# EAGLE library part CEM3320_UNFOLDED (library CEM)
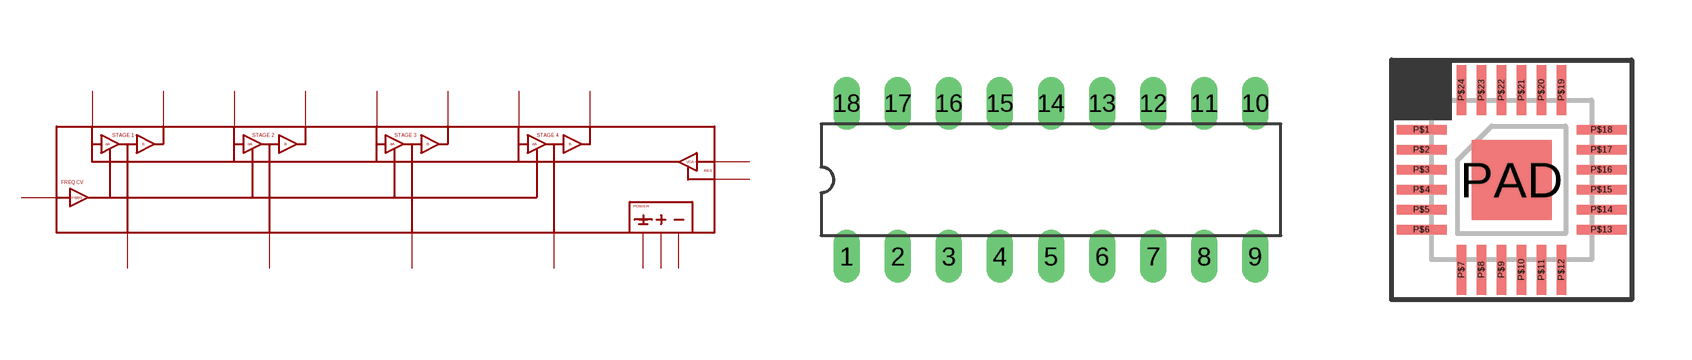
[diagram p5: symbol with the pads of DIL18; footprints DIL18, QFN24]

Designator prefix IC

## CEM3320_UNFOLDED  [DIL18]
1  STAGE1_IN
2  STAGE2_IN
3  GROUND
4  STAGE2_CAP
5  STAGE1_CAP
6  STAGE2_OUT
7  STAGE1_OUT
8  FEEDBACK_IN
9  RESONANCE_CV
10  STAGE4_OUT
11  STAGE4_CAP
12  FREQCV
13  NEGRAIL
14  POSRAIL
15  STAGE3_OUT
16  STAGE3_CAP
17  STAGE3_IN
18  STAGE4_IN

## CEM3320_UNFOLDEDQFN  [QFN24]
P$2  STAGE3_IN
P$3  STAGE4_IN
P$4  STAGE1_IN
P$5  STAGE2_IN
P$7  GROUND
P$8  STAGE2_CAP
P$9  STAGE1_CAP
P$11  STAGE2_OUT
P$12  STAGE1_OUT
P$14  FEEDBACK_IN
P$15  RESONANCE_CV
P$16  STAGE4_OUT
P$17  STAGE4_CAP
P$19  FREQCV
P$20  NEGRAIL
P$22  POSRAIL
P$23  STAGE3_OUT
P$24  STAGE3_CAP

## Footprint DIL18 (pad centres in mm)
Dual In Line 18
drill 0.813 long: 1 -10.16,-3.81; 2 -7.62,-3.81; 3 -5.08,-3.81; 4 -2.54,-3.81; 5 0,-3.81; 6 2.54,-3.81; 7 5.08,-3.81; 8 7.62,-3.81; 9 10.16,-3.81; 10 10.16,3.81; 11 7.62,3.81; 12 5.08,3.81; 13 2.54,3.81; 14 0,3.81; 15 -2.54,3.81; 16 -5.08,3.81; 17 -7.62,3.81; 18 -10.16,3.81

## Footprint QFN24 (pad centres in mm)
smd 1.25 x 0.23: P$1 -2.25,1.25; P$2 -2.25,0.75; P$3 -2.25,0.25; P$4 -2.25,-0.25; P$5 -2.25,-0.75; P$6 -2.25,-1.25; P$13 2.25,-1.25; P$14 2.25,-0.75; P$15 2.25,-0.25; P$16 2.25,0.25; P$17 2.25,0.75; P$18 2.25,1.25
smd 0.23 x 1.25: P$7 -1.25,-2.25; P$8 -0.75,-2.25; P$9 -0.25,-2.25; P$10 0.25,-2.25; P$11 0.75,-2.25; P$12 1.25,-2.25; P$19 1.25,2.25; P$20 0.75,2.25; P$21 0.25,2.25; P$22 -0.25,2.25; P$23 -0.75,2.25; P$24 -1.25,2.25
smd 2 x 2: PAD 0,0